# Altium schematic symbol library I2C.SchLib: 3 symbols
Pins are listed as number, name and electrical type; pins without a type are passive.

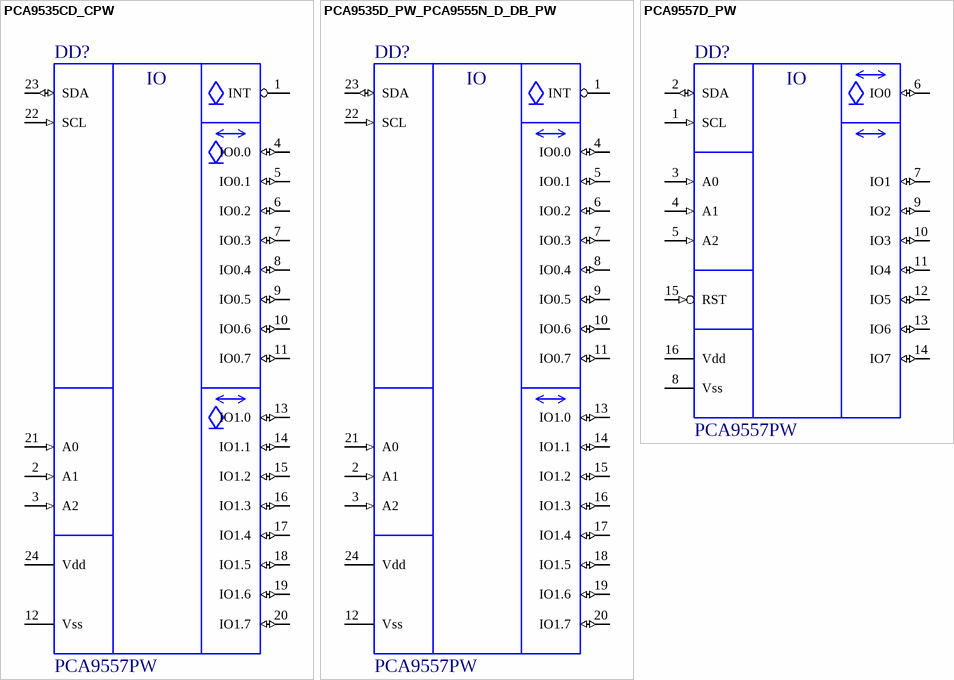
[diagram p0: symbols PCA9535CD_CPW to PCA9557D_PW]

## PCA9535CD_CPW
designator DD?, comment PCA9557PW
16-bit I2C-bus and SMBus, low power I/O port with interrupt; Slave_address: 4Xh; ValueSch: PCA9557PW
pins: 1 INT (oc), 2 A1 (in), 3 A2 (in), 4 IO0.0 (io), 5 IO0.1 (io), 6 IO0.2 (io), 7 IO0.3 (io), 8 IO0.4 (io), 9 IO0.5 (io), 10 IO0.6 (io), 11 IO0.7 (io), 12 Vss (power) "-power supply", 13 IO1.0 (io), 14 IO1.1 (io), 15 IO1.2 (io), 16 IO1.3 (io), 17 IO1.4 (io), 18 IO1.5 (io), 19 IO1.6 (io), 20 IO1.7 (io), 21 A0 (in), 22 SCL (in), 23 SDA (io), 24 Vdd (power) "+power supply"
text: IO

## PCA9535D_PW_PCA9555N_D_DB_PW
designator DD?, comment PCA9557PW
16-bit I2C-bus and SMBus, low power I/O port with interrupt; Slave_address: 4Xh; ValueSch: PCA9557PW
pins: 1 INT (oc), 2 A1 (in), 3 A2 (in), 4 IO0.0 (io), 5 IO0.1 (io), 6 IO0.2 (io), 7 IO0.3 (io), 8 IO0.4 (io), 9 IO0.5 (io), 10 IO0.6 (io), 11 IO0.7 (io), 12 Vss (power) "-power supply", 13 IO1.0 (io), 14 IO1.1 (io), 15 IO1.2 (io), 16 IO1.3 (io), 17 IO1.4 (io), 18 IO1.5 (io), 19 IO1.6 (io), 20 IO1.7 (io), 21 A0 (in), 22 SCL (in), 23 SDA (io), 24 Vdd (power) "+power supply"
text: IO

## PCA9557D_PW
designator DD?, comment PCA9557PW
8-bit I2C-bus and SMBus I/O port with reset; Slave_address: 3Xh; ValueSch: PCA9557PW
pins: 1 SCL (in), 2 SDA (io), 3 A0 (in), 4 A1 (in), 5 A2 (in), 6 IO0 (io), 7 IO1 (io), 8 Vss (power) "-power supply", 9 IO2 (io), 10 IO3 (io), 11 IO4 (io), 12 IO5 (io), 13 IO6 (io), 14 IO7 (io), 15 RST (in), 16 Vdd (power) "+power supply"
text: IO